# Altium footprint library ice.PcbLib: 25 footprints (part 1 of 2)
Each footprint in its own frame and in the unit in brackets; x right, y up, seen from the top. Pads: shape width x height; smd on the part's side, far side on the other; paste and mask are expansions set on the pad; w line width, h text height; cw(c..) or ccw(c..) is an arc to the next point about the centre after c.
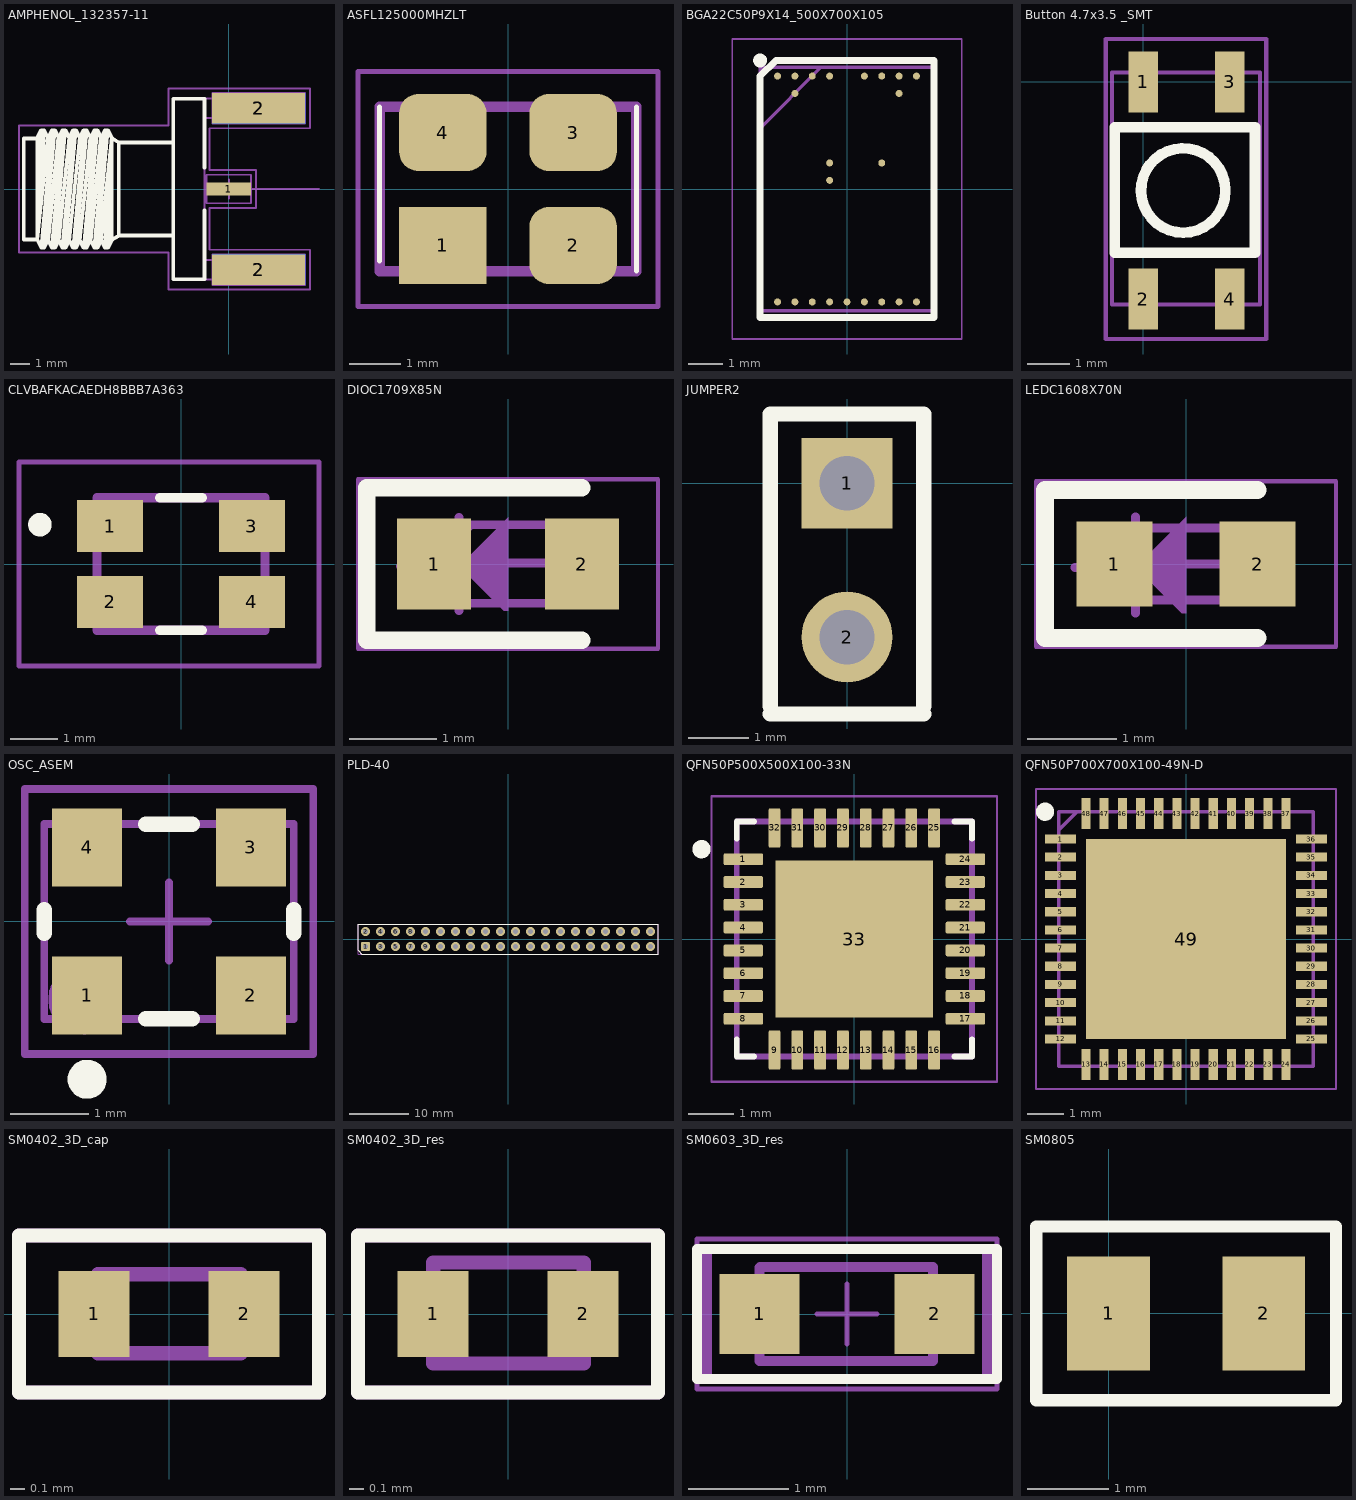
[diagram p0: the footprints below, top view; thin cyan lines are the x and y axes]

## AMPHENOL_132357-11 [mm]
height 1.2
pads (5):
  rect 2.35x0.7 smd: 1(0,0)
  rect 4.9x1.6 smd: 2(1.575,-4.25) 2(1.575,4.25)
  rect 4.9x1.6 smd far side: 2(1.575,-4.25) 2(1.575,4.25)
Top Overlay:
  lines w0.2: -10.09,2.665 -10.805,2.665 -10.805,-2.665 -10.09,-2.665 ; -6.17,-2.665 -5.795,-2.453 ; -2.925,-2.453 -5.795,-2.453 ; -2.925,2.447 -5.795,2.447 ; -1.275,-1.137 -1.275,-4.76 -2.925,-4.76 -2.925,4.76 -1.275,4.76 -1.275,1.137 ; -10.09,-2.665 -10.09,2.715 -9.879,3.094 ; -10.09,-2.665 -9.879,-3.094 ; -10.09,-2.665 -9.53,2.715 ; -10.09,-2.665 -9.741,3.094 ; -10.09,-2.665 -9.879,3.094 ; -9.879,-3.094 -9.741,-3.094 ; -9.879,-3.094 -9.319,3.094 ; -9.879,3.094 -9.741,3.094 ; -9.741,-3.094 -9.53,-2.715 ; -9.741,-3.094 -9.181,3.094 ; -9.741,3.094 -9.53,2.715 ; -9.53,-2.715 -9.319,-3.094 ; -9.53,-2.715 -8.97,2.715 ; -9.53,2.715 -9.319,3.094 ; -9.319,-3.094 -9.181,-3.094 ; -9.319,-3.094 -8.759,3.094 ; -9.319,3.094 -9.181,3.094 ; -9.181,-3.094 -8.97,-2.715 ; -9.181,-3.094 -8.621,3.094 ; -9.181,3.094 -8.97,2.715 ; -8.97,-2.715 -8.759,-3.094 ; -8.97,-2.715 -8.41,2.715 ; -8.97,2.715 -8.759,3.094 ; -8.759,-3.094 -8.621,-3.094 ; -8.759,-3.094 -8.199,3.094 ; -8.759,3.094 -8.621,3.094 ; -8.621,-3.094 -8.41,-2.715 ; -8.621,-3.094 -8.061,3.094 ; -8.621,3.094 -8.41,2.715 ; -8.41,-2.715 -8.199,-3.094 ; -8.41,-2.715 -7.85,2.715 ; -8.41,2.715 -8.199,3.094 ; -8.199,-3.094 -8.061,-3.094 ; -8.199,-3.094 -7.639,3.094 ; -8.199,3.094 -8.061,3.094 ; -8.061,-3.094 -7.85,-2.715 ; -8.061,-3.094 -7.501,3.094 ; -8.061,3.094 -7.85,2.715 ; -7.85,-2.715 -7.639,-3.094 ; -7.85,-2.715 -7.29,2.715 ; -7.85,2.715 -7.639,3.094 ; -7.639,-3.094 -7.501,-3.094 ; -7.639,-3.094 -7.079,3.094 ; -7.639,3.094 -7.501,3.094 ; -7.501,-3.094 -7.29,-2.715 ; -7.501,-3.094 -6.941,3.094 ; -7.501,3.094 -7.29,2.715 ; -7.29,-2.715 -7.079,-3.094 ; -7.29,-2.715 -6.73,2.715 ; -7.29,2.715 -7.079,3.094 ; -7.079,-3.094 -6.941,-3.094 ; -7.079,-3.094 -6.519,3.094 ; -7.079,3.094 -6.941,3.094 ; -6.941,-3.094 -6.73,-2.715 ; -6.941,-3.094 -6.381,3.094 ; -6.941,3.094 -6.73,2.715 ; -6.73,-2.715 -6.519,-3.094 ; -6.73,-2.715 -6.17,2.713 ; -6.73,2.715 -6.519,3.094 ; -6.519,-3.094 -6.381,-3.094 ; -6.519,-3.094 -6.17,2.713 ; -6.519,3.094 -6.381,3.094 ; -6.381,-3.094 -6.17,-2.715 -6.17,2.713 ; -6.381,-3.094 -6.17,2.665 -5.795,2.447 ; -6.381,3.094 -6.17,2.713 ; -5.795,-2.453 -5.795,2.447
Mechanical 8:
  lines w0.1: -0.5,0 0,0 ; 0,-0.5 0,0 ; 0,0.5 0,0 ; 0.5,0 0,0 ; 1.075,-4.25 1.575,-4.25 ; 1.075,4.25 1.575,4.25 ; 1.575,-4.75 1.575,-4.25 ; 1.575,-3.75 1.575,-4.25 ; 1.575,3.75 1.575,4.25 ; 1.575,4.75 1.575,4.25 ; 2.075,-4.25 1.575,-4.25 ; 2.075,4.25 1.575,4.25 ; -1.175,-0.75 -1.175,0.75 1.175,0.75 1.175,-0.75 -1.175,-0.75 ; -0.875,-5.05 4.025,-5.05 4.025,-3.45 -0.875,-3.45 -0.875,-5.05 ; -0.875,3.45 4.025,3.45 4.025,5.05 -0.875,5.05 -0.875,3.45
Mechanical 14:
  lines w0.1: -10.09,2.665 -10.805,2.665 -10.805,-2.665 -10.09,-2.665 ; -6.17,-2.665 -5.795,-2.453 ; -2.925,-2.453 -5.795,-2.453 ; -2.925,2.447 -5.795,2.447 ; -1.275,-4.76 -1.275,0 ; -1.275,-3.74 3.475,-3.74 3.475,-4.76 -2.925,-4.76 -2.925,4.76 3.475,4.76 3.475,3.74 -1.275,3.74 ; -1.275,-0.251 0.635,-0.251 0.635,0.251 -1.275,0.251 ; -1.275,4.76 -1.275,0 ; 4.75,0 -1.275,0 ; -10.09,-2.665 -10.09,2.715 -9.879,3.094 ; -10.09,-2.665 -9.879,-3.094 ; -10.09,-2.665 -9.53,2.715 ; -10.09,-2.665 -9.741,3.094 ; -10.09,-2.665 -9.879,3.094 ; -9.879,-3.094 -9.741,-3.094 ; -9.879,-3.094 -9.319,3.094 ; -9.879,3.094 -9.741,3.094 ; -9.741,-3.094 -9.53,-2.715 ; -9.741,-3.094 -9.181,3.094 ; -9.741,3.094 -9.53,2.715 ; -9.53,-2.715 -9.319,-3.094 ; -9.53,-2.715 -8.97,2.715 ; -9.53,2.715 -9.319,3.094 ; -9.319,-3.094 -9.181,-3.094 ; -9.319,-3.094 -8.759,3.094 ; -9.319,3.094 -9.181,3.094 ; -9.181,-3.094 -8.97,-2.715 ; -9.181,-3.094 -8.621,3.094 ; -9.181,3.094 -8.97,2.715 ; -8.97,-2.715 -8.759,-3.094 ; -8.97,-2.715 -8.41,2.715 ; -8.97,2.715 -8.759,3.094 ; -8.759,-3.094 -8.621,-3.094 ; -8.759,-3.094 -8.199,3.094 ; -8.759,3.094 -8.621,3.094 ; -8.621,-3.094 -8.41,-2.715 ; -8.621,-3.094 -8.061,3.094 ; -8.621,3.094 -8.41,2.715 ; -8.41,-2.715 -8.199,-3.094 ; -8.41,-2.715 -7.85,2.715 ; -8.41,2.715 -8.199,3.094 ; -8.199,-3.094 -8.061,-3.094 ; -8.199,-3.094 -7.639,3.094 ; -8.199,3.094 -8.061,3.094 ; -8.061,-3.094 -7.85,-2.715 ; -8.061,-3.094 -7.501,3.094 ; -8.061,3.094 -7.85,2.715 ; -7.85,-2.715 -7.639,-3.094 ; -7.85,-2.715 -7.29,2.715 ; -7.85,2.715 -7.639,3.094 ; -7.639,-3.094 -7.501,-3.094 ; -7.639,-3.094 -7.079,3.094 ; -7.639,3.094 -7.501,3.094 ; -7.501,-3.094 -7.29,-2.715 ; -7.501,-3.094 -6.941,3.094 ; -7.501,3.094 -7.29,2.715 ; -7.29,-2.715 -7.079,-3.094 ; -7.29,-2.715 -6.73,2.715 ; -7.29,2.715 -7.079,3.094 ; -7.079,-3.094 -6.941,-3.094 ; -7.079,-3.094 -6.519,3.094 ; -7.079,3.094 -6.941,3.094 ; -6.941,-3.094 -6.73,-2.715 ; -6.941,-3.094 -6.381,3.094 ; -6.941,3.094 -6.73,2.715 ; -6.73,-2.715 -6.519,-3.094 ; -6.73,-2.715 -6.17,2.713 ; -6.73,2.715 -6.519,3.094 ; -6.519,-3.094 -6.381,-3.094 ; -6.519,-3.094 -6.17,2.713 ; -6.519,3.094 -6.381,3.094 ; -6.381,-3.094 -6.17,-2.715 -6.17,2.713 ; -6.381,-3.094 -6.17,2.665 -5.795,2.447 ; -6.381,3.094 -6.17,2.713 ; -5.795,-2.453 -5.795,2.447
Top Assembly:
  lines w0.1: -11.055,-3.344 -3.175,-3.344 -3.175,-5.3 4.275,-5.3 4.275,-3.2 -1.025,-3.2 -1.025,-1 1.425,-1 1.425,1 -1.025,1 -1.025,3.2 4.275,3.2 4.275,5.3 -3.175,5.3 -3.175,3.344 -11.055,3.344 -11.055,-3.344
3D body "AMPHENOL_132357-11.stp": height 4.08, standoff -3.84, extent -10.805,-4.76 3.475,4.76

## ASFL125000MHZLT [mm]
height 1.2
pads (4):
  rect 1.7x1.5 smd: 1(-1.27,-1.1)
  rrect50% 1.7x1.5 smd: 2(1.27,-1.1) 3(1.27,1.1) 4(-1.27,1.1)
Top Overlay:
  lines w0.1: -2.5,-1.4 -2.5,1.6 ; 2.5,-1.6 2.5,1.6
M13_3D_Outline:
  lines w0.2: -2.5,-1.6 2.5,-1.6 2.5,1.6 -2.5,1.6 -2.5,-1.6
Top Assembly:
  lines w0.1: -2.921,-2.286 2.921,-2.286 ; -2.921,-2.286 -2.921,2.286 ; -2.921,-2.286 2.921,-2.286 ; -2.921,-2.286 -2.921,2.286 ; -2.921,2.286 2.921,2.286 ; -2.921,2.286 2.921,2.286 ; 2.921,-2.286 2.921,2.286 ; 2.921,-2.286 2.921,2.286
  text ".Designator" at -0.078,-0.092 h0.7
3D body "ASFL1-25.000MHZ-L-T.stp": height 1.4, standoff 0, extent -2.5,-1.7 2.5,1.7

## BGA22C50P9X14_500X700X105 [mm]
height 1.2
pads (22):
  round 0.2 smd: A1(-2,3.25) A2(-1.5,3.25) A3(-1,3.25) A4(-0.5,3.25) A6(0.5,3.25) A7(1,3.25) A8(1.5,3.25) A9(2,3.25) B2(-1.5,2.75) B8(1.5,2.75) F4(-0.5,0.75) F7(1,0.75) G4(-0.5,0.25) P1(-2,-3.25) P2(-1.5,-3.25) P3(-1,-3.25) P4(-0.5,-3.25) P5(0,-3.25) P6(0.5,-3.25) P7(1,-3.25) P8(1.5,-3.25) P9(2,-3.25)
Top Overlay:
  circle w0.2: c-2.5,3.7 r0.1
  lines w0.2: -2.5,-3.7 -2.5,3.25 -2.05,3.7 2.5,3.7 2.5,-3.7 -2.5,-3.7
Top Courtyard:
  lines w0.05: -3.302,-4.318 -3.302,4.318 3.302,4.318 3.302,-4.318 -3.302,-4.318
M13_3D_Outline:
  lines w0.1: -2.5,1.75 -0.75,3.5 ; -2.5,-3.5 -2.5,3.5 2.5,3.5 2.5,-3.5 -2.5,-3.5
Top Assembly:
  lines w0.05: -3.302,-4.318 -3.302,4.318 3.302,4.318 3.302,-4.318 -3.302,-4.318
  text ".Designator" at -0.078,-0.092 h0.7
3D body "HV7361GA-G.stp": height 1.05, standoff 0, extent -2.5,-3.5 2.5,3.5

## Button 4.7x3.5 _SMT [mm] "EVQ-P9P02M_SMT"
height 2.1
pads (4):
  rect 0.7x1.45 smd: 1(0,0) 2(0,-5.15) 3(2.05,0) 4(2.05,-5.15)
Top Overlay:
  lines w0.254: 1.949,-2.522 ccw(c0.95,-2.575) 1.95,-2.593 ; -0.675,-4.05 -0.675,-1.075 2.65,-1.075 2.65,-4.05 -0.675,-4.05
Top Courtyard:
  lines w0.1: -0.889,-6.096 2.921,-6.096 2.921,1.016 -0.889,1.016 -0.889,-6.096
M13_3D_Outline:
  lines w0.1: -0.735,-5.277 -0.735,0.225 2.773,0.225 2.773,-5.277 -0.735,-5.277
Top Assembly:
  lines w0.1: -0.889,-6.096 2.921,-6.096 2.921,1.016 -0.889,1.016 -0.889,-6.096
  text ".Designator" at 0.938,-2.759 h0.7
3D body "EVQ-P2-0246-02M+P9-HP-02M.stp": height 2.11, standoff 0.01, extent -0.719,-5.296 2.781,0.204

## CLVBAFKACAEDH8BBB7A363 [mm]
height 1.2
pads (4):
  rect 1.4x1.1 smd: 1(-1.5,0.8) 2(-1.5,-0.8) 3(1.5,0.8) 4(1.5,-0.8)
Top Overlay:
  circle w0.25: c-2.986,0.833 r0.125
  lines w0.2: -0.451,-1.4 0.451,-1.4 ; -0.451,1.4 0.451,1.4
Top Courtyard:
  lines w0.1: -3.429,-2.159 -3.429,2.159 2.921,2.159 2.921,-2.159 -3.429,-2.159
M13_3D_Outline:
  lines w0.2: -1.778,-1.4 1.778,-1.4 1.778,1.4 -1.778,1.4 -1.778,-1.4
Top Assembly:
  lines w0.1: -3.429,-2.159 2.921,-2.159 2.921,2.159 -3.429,2.159 -3.429,-2.159
  text ".Designator" at -0.078,-0.092 h0.7
3D body "CLVBA-FKA-CAEDH8BBB7A363--3DModel-STEP-56544.STEP": height 2.06, standoff -0.04, extent -1.75,-1.4 1.75,1.4

## DIOC1709X85N [mm]
height 1.2
pads (2):
  rect 0.85x1.05 smd: 1(-0.85,0) 2(0.85,0)
Top Overlay:
  lines w0.2: 0.85,-0.875 -1.625,-0.875 -1.625,0.875 0.85,0.875
Top Courtyard:
  lines w0.05: -1.725,-0.975 -1.725,0.975 1.725,0.975 1.725,-0.975 -1.725,-0.975
M13_3D_Outline:
  lines w0.1: -0.85,0.025 -0.425,0.45 ; -0.85,-0.45 -0.85,0.45 0.85,0.45 0.85,-0.45 -0.85,-0.45
Top Assembly:
  region: 0,0.538 -0.563,-0.025 -0.05,-0.537 0,-0.537
  lines w0.05: -1.725,-0.975 -1.725,0.975 1.725,0.975 1.725,-0.975 -1.725,-0.975
  lines w0.1: -1.237,-0.025 -0.563,-0.025 ; -0.563,-0.537 -0.563,0.538 ; 0,0.013 0.725,0.013
  text ".Designator" at -0.078,-0.092 h0.7
3D body "CDBU0520.stp": height 0.85, standoff 0, extent -0.85,-0.45 0.85,0.45

## JUMPER2 [mm]
pads (2):
  rect 1.5x1.5 hole 0.9: 1(0,0)
  round 1.5 hole 0.9: 2(0,-2.54)
Top Overlay:
  lines w0.254: -1.27,-3.81 1.27,-3.81 ; -1.27,-3.683 -1.27,1.143 1.27,1.143 1.27,-3.683
Top Courtyard:
  lines w0.1: -1.27,-3.81 1.27,-3.81 1.27,1.143 -1.27,1.143 -1.27,-3.81
M13_3D_Outline:
  lines w0.1: -1.27,-3.81 -1.27,1.143 1.27,1.143 1.27,-3.81 -1.27,-3.81
Top Assembly:
  lines w0.1: -1.27,-3.81 -1.27,1.143 1.27,1.143 1.27,-3.81 -1.27,-3.81
  text ".Designator" at 0.023,-1.395 h0.7
3D body "TSW-101-07-F-D.stp": height 8.39, standoff -2.53, extent -1.27,-3.81 1.27,1.27

## LEDC1608X70N [mm]
height 1.2
pads (2):
  rect 0.85x0.95 smd: 1(-0.8,0) 2(0.8,0)
Top Overlay:
  lines w0.2: 0.8,-0.825 -1.575,-0.825 -1.575,0.825 0.8,0.825
Top Courtyard:
  lines w0.05: -1.675,-0.925 -1.675,0.925 1.675,0.925 1.675,-0.925 -1.675,-0.925
M13_3D_Outline:
  lines w0.1: -0.8,0.133 -0.533,0.4 ; -0.8,-0.4 0.8,-0.4 0.8,0.4 -0.8,0.4 -0.8,-0.4
Top Assembly:
  region: 0,0.525 -0.563,-0.038 -0.05,-0.55 0,-0.55
  lines w0.05: -1.675,-0.925 1.675,-0.925 1.675,0.925 -1.675,0.925 -1.675,-0.925
  lines w0.1: -1.237,-0.038 -0.563,-0.038 ; -0.563,-0.55 -0.563,0.525 ; 0,0 0.725,0
  text ".Designator" at -0.078,-0.104 h0.7
3D body "LED_SML-LX0603GW-TR_LUM.step": height 0.61, standoff 0, extent -0.8,-0.406 0.8,0.406

## OSC_ASEM [mm]
pads (4):
  rect 0.9x1 smd mask+0.051: 1(-1.05,-0.95) 2(1.05,-0.95) 3(1.05,0.95) 4(-1.05,0.95)
Top Overlay:
  circle w0.25: c-1.05,-2.025 r0.125
  lines w0.2: -1.6,-0.15 -1.6,0.15 ; -0.3,-1.25 0.3,-1.25 ; -0.3,1.25 0.3,1.25 ; 1.6,-0.15 1.6,0.15
Top 3D Body:
  lines w0.1: -1.6,-1.25 1.6,-1.25 1.6,1.25 -1.6,1.25 -1.6,-1.25
Top Courtyard:
  lines w0.1: -0.5,0 0.5,0 ; 0,-0.5 0,0.5 ; -1.85,-1.7 1.85,-1.7 1.85,1.7 -1.85,1.7 -1.85,-1.7
Top Assembly:
  circle w0.1: c-1.1,-1 r0.4
  lines w0.1: -1.85,-1.7 -1.85,1.7 1.85,1.7 1.85,-1.7 -1.85,-1.7
  text ".Designator" at -1.5,-0.2 h0.7
3D body "OSC_ASEM.STEP": height 0.85, standoff 0, extent -1.6,-1.25 1.6,1.25

## PLD-40 [mm]
height 1.2
pads (40):
  rrect30% 1.5x1.5 hole 0.9: 1(-24.13,-1.27)
  round 1.5 hole 0.9: 2(-24.13,1.27) 3(-21.59,-1.27) 4(-21.59,1.27) 5(-19.05,-1.27) 6(-19.05,1.27) 7(-16.51,-1.27) 8(-16.51,1.27) 9(-13.97,-1.27) 10(-13.97,1.27) 11(-11.43,-1.27) 12(-11.43,1.27) 13(-8.89,-1.27) 14(-8.89,1.27) 15(-6.35,-1.27) 16(-6.35,1.27) 17(-3.81,-1.27) 18(-3.81,1.27) 19(-1.27,-1.27) 20(-1.27,1.27) 21(1.27,-1.27) 22(1.27,1.27) 23(3.81,-1.27) 24(3.81,1.27) 25(6.35,-1.27) 26(6.35,1.27) 27(8.89,-1.27) 28(8.89,1.27) 29(11.43,-1.27) 30(11.43,1.27) 31(13.97,-1.27) 32(13.97,1.27) 33(16.51,-1.27) 34(16.51,1.27) 35(19.05,-1.27) 36(19.05,1.27) 37(21.59,-1.27) 38(21.59,1.27) 39(24.13,-1.27) 40(24.13,1.27)
Top Overlay:
  lines w0.2: -25.4,-1.905 -25.4,2.54 ; -25.4,-1.905 -24.765,-2.54 ; -25.4,-1.905 -25.4,2.54 ; -25.4,-1.905 -24.765,-2.54 ; -25.4,2.54 25.4,2.54 ; -25.4,2.54 25.4,2.54 ; -24.765,-2.54 25.4,-2.54 ; -24.765,-2.54 25.4,-2.54 ; 25.4,-2.54 25.4,2.54 ; 25.4,-2.54 25.4,2.54
Top Courtyard:
  lines w0.2: -25.4,-1.905 -25.4,2.54 25.4,2.54 25.4,-2.54 -24.765,-2.54 -25.4,-1.905
M13_3D_Outline:
  lines w0.2: -25.4,-2.54 -25.4,2.54 25.4,2.54 25.4,-2.54 -25.4,-2.54
Top Assembly:
  lines w0.2: -25.4,-1.905 -25.4,2.54 25.4,2.54 25.4,-2.54 -24.765,-2.54 -25.4,-1.905
  text ".Designator" at -0.235,-0.243 h1.5
3D body "TSW-120-07-F-D.stp": height 8.39, standoff -2.53, extent -25.4,-2.54 25.4,2.54

## QFN50P500X500X100-33N [mm]
pads (33):
  rrect25% 0.86x0.26 smd: 1(-2.435,1.75) 2(-2.435,1.25) 3(-2.435,0.75) 4(-2.435,0.25) 5(-2.435,-0.25) 6(-2.435,-0.75) 7(-2.435,-1.25) 8(-2.435,-1.75) 17(2.435,-1.75) 18(2.435,-1.25) 19(2.435,-0.75) 20(2.435,-0.25) 21(2.435,0.25) 22(2.435,0.75) 23(2.435,1.25) 24(2.435,1.75)
  rrect25% 0.26x0.86 smd: 9(-1.75,-2.435) 10(-1.25,-2.435) 11(-0.75,-2.435) 12(-0.25,-2.435) 13(0.25,-2.435) 14(0.75,-2.435) 15(1.25,-2.435) 16(1.75,-2.435) 25(1.75,2.435) 26(1.25,2.435) 27(0.75,2.435) 28(0.25,2.435) 29(-0.25,2.435) 30(-0.75,2.435) 31(-1.25,2.435) 32(-1.75,2.435)
  rect 3.45x3.45 smd paste-3: 33(0,0)
Top Overlay:
  circle w0.2: c-3.35,1.97 r0.1
  lines w0.127: -2.58,-2.2 -2.58,-2.58 -2.2,-2.58 ; -2.58,2.2 -2.58,2.58 -2.2,2.58 ; 2.2,-2.58 2.58,-2.58 2.58,-2.2 ; 2.2,2.58 2.58,2.58 2.58,2.2
Top Paste:
  region: 1.1,-1.105 -1.105,-1.105 -1.105,1.1 1.1,1.1
Top Courtyard:
  lines w0.05: -3.13,-3.13 -3.13,3.13 3.13,3.13 3.13,-3.13 -3.13,-3.13
M13_3D_Outline:
  lines w0.127: -2.58,-2.58 2.58,-2.58 2.58,2.58 -2.58,2.58 -2.58,-2.58
Top Assembly:
  lines w0.05: -3.13,-3.13 -3.13,3.13 3.13,3.13 3.13,-3.13 -3.13,-3.13
  text ".Designator" at -0.078,-0.092 h0.7
3D body "AD8332ACPZ-R2.STEP": height 0.88, standoff -0.02, extent -2.52,-2.52 2.52,2.52

## QFN50P700X700X100-49N-D [mm]
height 1.2
pads (49):
  rect 0.85x0.25 smd: 1(-3.45,2.75) 2(-3.45,2.25) 3(-3.45,1.75) 4(-3.45,1.25) 5(-3.45,0.75) 6(-3.45,0.25) 7(-3.45,-0.25) 8(-3.45,-0.75) 9(-3.45,-1.25) 10(-3.45,-1.75) 11(-3.45,-2.25) 12(-3.45,-2.75) 25(3.45,-2.75) 26(3.45,-2.25) 27(3.45,-1.75) 28(3.45,-1.25) 29(3.45,-0.75) 30(3.45,-0.25) 31(3.45,0.25) 32(3.45,0.75) 33(3.45,1.25) 34(3.45,1.75) 35(3.45,2.25) 36(3.45,2.75)
  rect 0.25x0.85 smd: 13(-2.75,-3.45) 14(-2.25,-3.45) 15(-1.75,-3.45) 16(-1.25,-3.45) 17(-0.75,-3.45) 18(-0.25,-3.45) 19(0.25,-3.45) 20(0.75,-3.45) 21(1.25,-3.45) 22(1.75,-3.45) 23(2.25,-3.45) 24(2.75,-3.45) 37(2.75,3.45) 38(2.25,3.45) 39(1.75,3.45) 40(1.25,3.45) 41(0.75,3.45) 42(0.25,3.45) 43(-0.25,3.45) 44(-0.75,3.45) 45(-1.25,3.45) 46(-1.75,3.45) 47(-2.25,3.45) 48(-2.75,3.45)
  rect 5.5x5.5 smd: 49(0,0)
Top Overlay:
  circle w0.25: c-3.875,3.5 r0.125
Top Courtyard:
  lines w0.05: -4.125,-4.125 4.125,-4.125 4.125,4.125 -4.125,4.125 -4.125,-4.125
M13_3D_Outline:
  lines w0.1: -3.5,3 -3,3.5 ; -3.5,-3.5 3.5,-3.5 3.5,3.5 -3.5,3.5 -3.5,-3.5
Top Assembly:
  lines w0.05: -4.125,-4.125 4.125,-4.125 4.125,4.125 -4.125,4.125 -4.125,-4.125
  text ".Designator" at -0.078,-0.092 h0.7
3D body "ICE40UP5K-SG48ITR.stp": height 1, standoff 0, extent -3.55,-3.55 3.55,3.55

## SM0402_3D_cap [mm] "0402 cap"
height 0.35
pads (2):
  rect 0.5x0.6 smd: 1(-0.525,0) 2(0.525,0)
Top Overlay:
  lines w0.1: -1.05,-0.55 -1.05,0.55 1.05,0.55 1.05,-0.55 -1.05,-0.55
Top Courtyard:
  lines w0.1: -1.05,-0.55 1.05,-0.55 1.05,0.55 -1.05,0.55 -1.05,-0.55
M13_3D_Outline:
  lines w0.1: -0.497,-0.274 -0.497,0.279 0.501,0.279 0.501,-0.274 -0.497,-0.274
Top Assembly:
  lines w0.1: -1.05,-0.55 1.05,-0.55 1.05,0.55 -1.05,0.55 -1.05,-0.55
  text ".Designator" at -0.078,-0.092 h0.7
3D body "CAP_0402.STEP": height 0.51, standoff 0.01, extent -0.5,-0.271 0.5,0.279

## SM0402_3D_res [mm] "0603 inch resistor"
height 0.35
pads (2):
  rect 0.5x0.6 smd: 1(-0.525,0) 2(0.525,0)
Top Overlay:
  lines w0.1: -1.05,-0.55 1.05,-0.55 1.05,0.55 -1.05,0.55 -1.05,-0.55
Top Courtyard:
  lines w0.1: -1.05,-0.55 -1.05,0.55 1.05,0.55 1.05,-0.55 -1.05,-0.55
M13_3D_Outline:
  lines w0.1: -0.523,-0.346 0.53,-0.346 0.53,0.361 -0.523,0.361 -0.523,-0.346
Top Assembly:
  lines w0.1: -1.05,-0.55 -1.05,0.55 1.05,0.55 1.05,-0.55 -1.05,-0.55
  text ".Designator" at -0.078,-0.092 h0.7
3D body "RES_0402N.step": height 0.51, standoff 0.01, extent -0.52,-0.349 0.53,0.362

## SM0603_3D_res [mm] "0603 inch resistor"
height 0.45
pads (2):
  rect 0.8x0.8 smd: 1(-0.875,0) 2(0.875,0)
Top Overlay:
  lines w0.1: -1.5,-0.65 -1.5,0.65 1.5,0.65 1.5,-0.65 -1.5,-0.65
Top Courtyard:
  lines w0.05: -1.5,-0.75 1.5,-0.75 1.5,0.75 -1.5,0.75 -1.5,-0.75
M13_3D_Outline:
  lines w0.1: -0.875,0.466 -0.875,-0.469 0.861,-0.469 0.861,0.472 -0.87,0.472
Mechanical 14:
  lines w0.1: -1.4,-0.65 -1.4,0.65 1.4,0.65 1.4,-0.65 -1.4,-0.65
Top Assembly:
  lines w0.05: -0.3,0 0.3,0 ; 0,-0.3 0,0.3 ; -1.5,-0.75 1.5,-0.75 1.5,0.75 -1.5,0.75 -1.5,-0.75
  text ".Designator" at -0.104,-0.125 h0.7
3D body "RESC1608X55N.stp": height 0.55, standoff 0, extent -0.875,-0.475 0.875,0.475

## SM0805 [mil]
height 47.24
pads (2):
  rect 40x55 smd: 1(0,0) 2(75,0)
Top Overlay:
  lines w5.91: -35,-42 -35,42 110,42 110,-42 -35,-42
Top Courtyard:
  lines w3.94: -35.09,-42.58 -35.09,41.95 110,41.95 110,-42.58 -35.09,-42.58
Top Assembly:
  lines w3.94: -35.09,-42.58 -35.09,41.95 110,41.95 110,-42.58 -35.09,-42.58
  text ".Designator" at 25.91,-4.91 h27.56
3D body "INDC2012X110N.stp": height 43.31, standoff 0, extent -3.3,-27.55 83.31,27.56